# EAGLE library part LTC3568 (library PowerProducts)
LT-Spice library generated with : ltspice.ulp from: D:/Program Files (x86)/LTC/LTspiceIV/lib/sym/PowerProducts/LTC3569*.asy at 07.10.2012 18:20:10
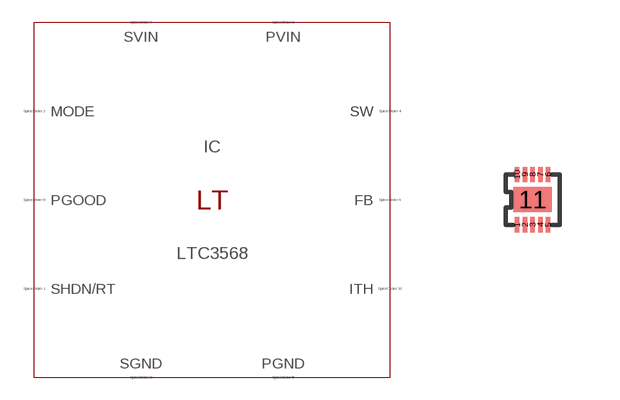
[diagram p253: symbol with the pads of DFN10(DD); footprint DFN10(DD)]

Designator prefix IC

## LTC3568 (SPICEMODEL: LTC3568.sub; SPICEPREFIX: X; VALUE2: LTC3568)  [DFN10(DD)]
1  SHDN/RT  pas
2  MODE  pas
3  SGND  pas
4  SW  pas
5  PGND  pas
6  PVIN  pas
7  SVIN  pas
8  PGOOD  pas
9  FB  pas
10  ITH  pas
11  SGND  pas

## Footprint DFN10(DD) (pad centres in mm)
Package generated from: DFN10(DD).asc (!PADS-POWERPCB-V9.3-BASIC! DESIGN DATABASE ASCII FILE 1.0) with :import-pads-powerpcb-v5.ulp Version 1.0.1 at 04.10.2012 14:11:16
smd 0.116 x 0.387: 1 -0.387,-0.629; 2 -0.194,-0.629; 3 0,-0.629; 4 0.194,-0.629; 5 0.387,-0.629; 6 0.387,0.629; 7 0.194,0.629; 8 0,0.629; 9 -0.194,0.629; 10 -0.387,0.629
smd 0.968 x 0.629: 11 0,0